# Altium footprint library AP64501SP-13.PcbLib: 1 footprints
Each footprint in its own frame and in the unit in brackets; x right, y up, seen from the top. Pads: shape width x height; smd on the part's side, far side on the other; paste and mask are expansions set on the pad; w line width, h text height; cw(c..) or ccw(c..) is an arc to the next point about the centre after c.
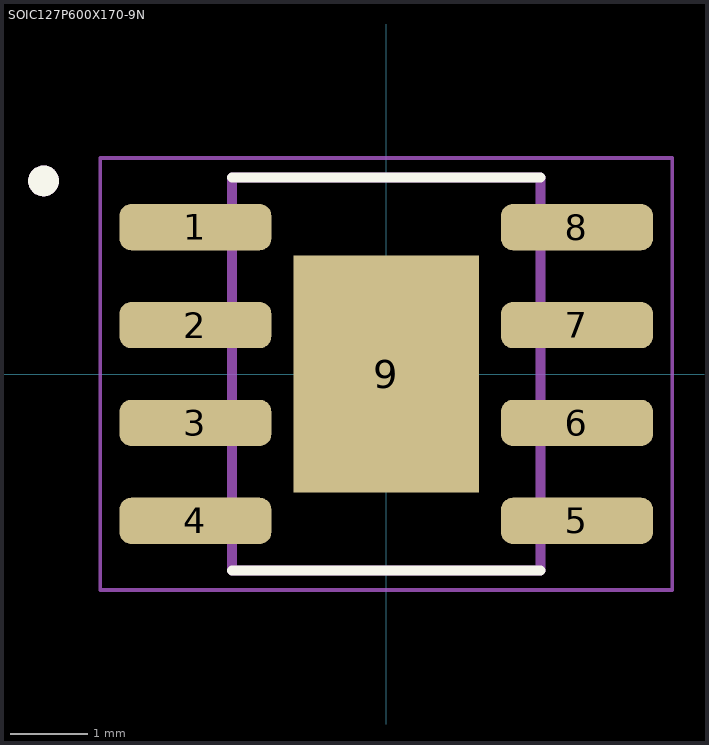
[diagram p0: the footprint, top view; thin cyan lines are the x and y axes]

## SOIC127P600X170-9N [mm]
pads (9):
  rrect50% 1.97x0.6 smd: 1(-2.475,1.905) 2(-2.475,0.635) 3(-2.475,-0.635) 4(-2.475,-1.905) 5(2.475,-1.905) 6(2.475,-0.635) 7(2.475,0.635) 8(2.475,1.905)
  rect 2.41x3.076 smd paste-3: 9(0,0)
Top Overlay:
  circle w0.2: c-4.445,2.505 r0.1
  lines w0.127: -2,-2.55 2,-2.55 ; -2,2.55 2,2.55
Mechanical 13:
  circle w0.2: c-4.445,2.505 r0.1
  lines w0.127: -2,-2.55 2,-2.55 2,2.55 -2,2.55 -2,-2.55
Mechanical 15:
  lines w0.05: -3.71,-2.8 3.71,-2.8 3.71,2.8 -3.71,2.8 -3.71,-2.8
3D body "step_temp.STEP": height 1.7, standoff 0, extent -3,-2.45 3,2.45